# Altium footprint library TO-220-H.PcbLib: 1 footprints
Each footprint in its own frame and in the unit in brackets; x right, y up, seen from the top. Pads: shape width x height; smd on the part's side, far side on the other; paste and mask are expansions set on the pad; w line width, h text height; cw(c..) or ccw(c..) is an arc to the next point about the centre after c.
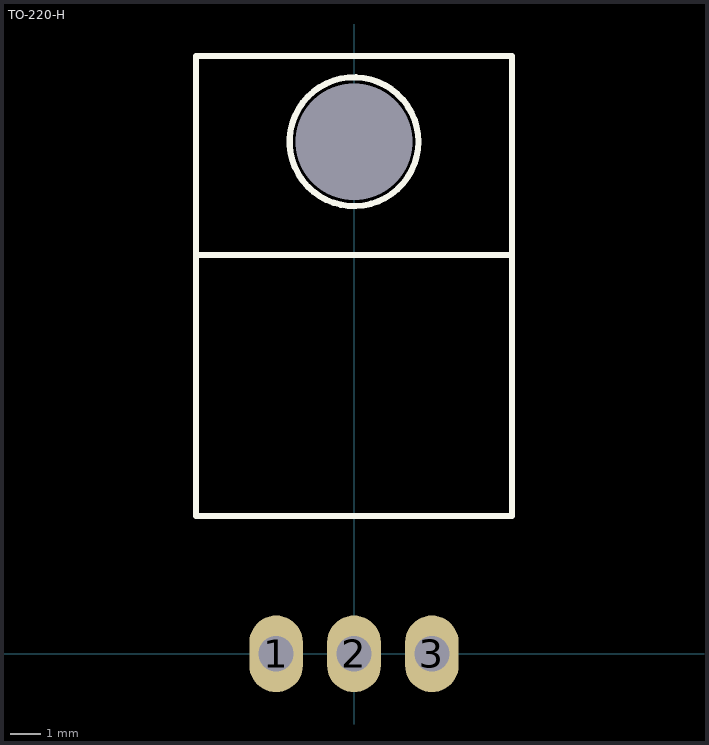
[diagram p0: the footprint, top view; thin cyan lines are the x and y axes]

## TO-220-H [mm]
pads (4):
  round 0 hole 3.8 unplated: 0(0,16.7)
  oval 1.75x2.5 hole 1.15: 1(-2.54,0) 2(0,0) 3(2.54,0)
Top Overlay:
  circle w0.2: c0,16.7 r2.1
  lines w0.2: -5.15,13 5.15,13 ; -5.15,4.5 -5.15,19.5 5.15,19.5 5.15,4.5 -5.15,4.5
3D body: height 4.5, standoff 0, extent -5.15,4.5 5.15,13
3D body: height 1.25, standoff 0, extent -5.15,13 5.15,19.5